# EAGLE library part CD4070BE (library logic)
Check prices <https://pricing.snapeda.com/parts/CD4070BE/Texas%20Instruments/view-part?ref=eda>
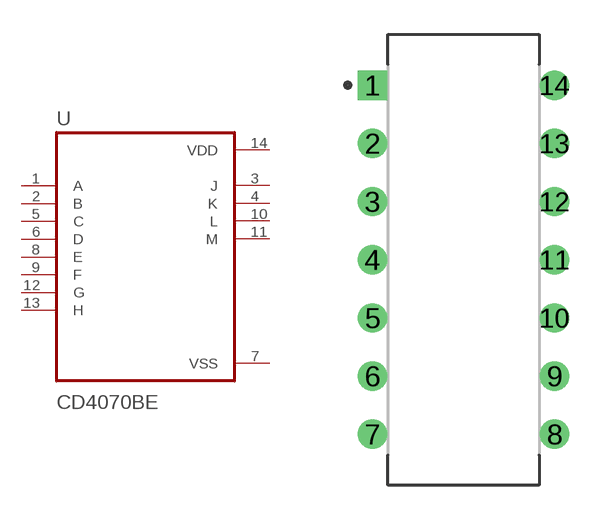
[diagram p4: symbol with the pads of DIP794W45P254L1969H508Q14; footprint DIP794W45P254L1969H508Q14]

Designator prefix U

## CD4070BE (AVAILABILITY: In Stock; DESCRIPTION: CMOS Quad Exclusive-OR Gate 14-PDIP -55 to 125; MF: Texas Instruments; MP: CD4070BE; PACKAGE: PDIP-14 Texas Instruments; PRICE: None; PURCHASE-URL: https://pricing.snapeda.com/search/part/CD4070BE/?ref=eda)  [DIP794W45P254L1969H508Q14]
1  A  in
2  B  in
3  J  out
4  K  out
5  C  in
6  D  in
7  VSS  pwr
8  E  in
9  F  in
10  L  out
11  M  out
12  G  in
13  H  in
14  VDD  pwr

## Footprint DIP794W45P254L1969H508Q14 (pad centres in mm)
drill 0.77 pad 1.17 square: 1 -3.97,7.62
drill 0.77 pad 1.17: 2 -3.97,5.08; 3 -3.97,2.54; 4 -3.97,0; 5 -3.97,-2.54; 6 -3.97,-5.08; 7 -3.97,-7.62; 8 3.97,-7.62; 9 3.97,-5.08; 10 3.97,-2.54; 11 3.97,0; 12 3.97,2.54; 13 3.97,5.08; 14 3.97,7.62